# Altium schematic symbol library LEDs-1206.SchLib: 1 symbol
Pins are listed as number, name and electrical type; pins without a type are passive.

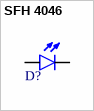
[diagram p0: symbol SFH 4046]

## SFH 4046
designator D?
Manufacturer: Osram; PartNumber: SFH 4046; PackageReference: 1206; PackageDescription: 1206 (3216 Metric); Mounting Technology: Surface Mount
footprint LED1206
pins: A, C